# Altium schematic symbol library Inductor.Schlib: 1 symbol
Pins are listed as number, name and electrical type; pins without a type are passive.

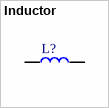
[diagram p0: symbol Inductor]

## Inductor
designator L?
Inductor; Назначение: Индуктивность; Published: 8-Jun-2000; Revision: July-2002: Re-released for DXP Platform.; Publisher: Altium Limited; Наименование: Индуктивность
footprint L-5x5
pins: 1, 2